# EAGLE library part 7499011121A (library 7499011121A)
Wurth Elektronik Through Hole RJ45 Connector Female Source: Datasheet <https://katalog.we-online.com/pbs/datasheet/7499011121A.pdf>
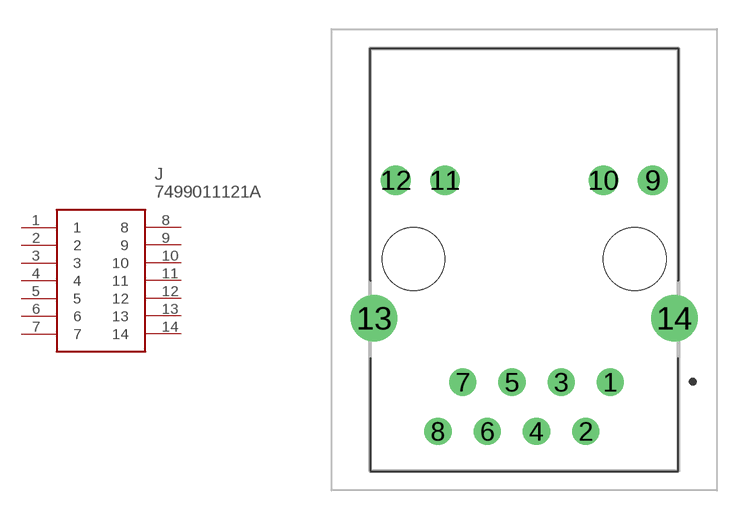
[diagram p0: symbol with the pads of 7499011121A; footprint 7499011121A]

Designator prefix J

## 7499011121A (Description: Wurth Elektronik Through Hole RJ45 Connector Female; Height: 13mm; Manufacturer_Name: Wurth Elektronik; Manufacturer_Part_Number: 7499011121A; Mouser_Part_Number: 710-7499011121A; Mouser_Price-Stock: https://www.mouser.co.uk/ProductDetail/Wurth-Elektronik/7499011121A?qs=SaTeGCoDkn2VpWS6B7hWdg%3D%3D)  [7499011121A]
1  1
2  2
3  3
4  4
5  5
6  6
7  7
8  8
9  9
10  10
11  11
12  12
13  13
14  14

## Footprint 7499011121A (pad centres in mm)
7499011121A
drill 0.9 pad 1.4: 1 4.445,-6.32; 2 3.175,-8.86; 3 1.905,-6.32; 4 0.635,-8.86; 5 -0.635,-6.32; 6 -1.905,-8.86; 7 -3.175,-6.32; 8 -4.445,-8.86
drill 1.02 pad 1.53: 9 6.63,4.11; 10 4.09,4.11; 11 -4.09,4.11; 12 -6.63,4.11
drill 1.6 pad 2.4: 13 -7.745,-3.02; 14 7.745,-3.02
hole 3.25 at -5.715,0.03
hole 3.25 at 5.715,0.03